# EAGLE library part LEA-5H (library ublox)
GPS RECEIVER
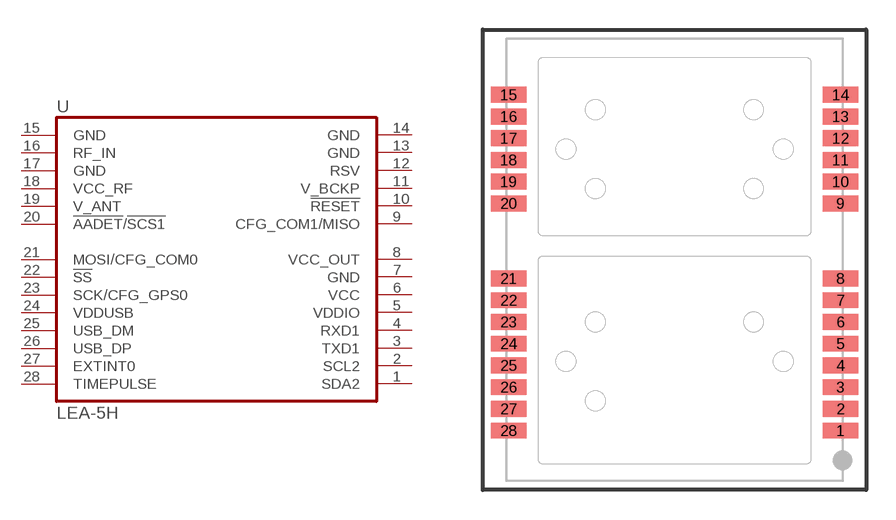
[diagram p0: symbol with the pads of LEA-5H; footprint LEA-5H]

Designator prefix U

## LEA-5H  [LEA-5H]
1  SDA2
2  SCL2
3  TXD1  out
4  RXD1
5  VDDIO
6  VCC
7  GND  pwr
8  VCC_OUT  out
9  CFG_COM1/MISO
10  !RESET!
11  V_BCKP  in
12  RSV
13  GND  pwr
14  GND  pwr
15  GND  pwr
16  RF_IN  in
17  GND  pwr
18  VCC_RF  out
19  V_ANT
20  !AADET!/!SCS1!
21  MOSI/CFG_COM0
22  !SS!
23  SCK/CFG_GPS0
24  VDDUSB  in
25  USB_DM
26  USB_DP
27  EXTINT0
28  TIMEPULSE  out

## Footprint LEA-5H (pad centres in mm)
u-blox 5 GPS Module
smd 1.8 x 0.8: 1 8.4,-17; 2 8.4,-15.9; 3 8.4,-14.8; 4 8.4,-13.7; 5 8.4,-12.6; 6 8.4,-11.5; 7 8.4,-10.4; 8 8.4,-9.3; 9 8.4,-5.5; 10 8.4,-4.4; 11 8.4,-3.3; 12 8.4,-2.2; 13 8.4,-1.1; 14 8.4,0; 15 -8.4,0; 16 -8.4,-1.1; 17 -8.4,-2.2; 18 -8.4,-3.3; 19 -8.4,-4.4; 20 -8.4,-5.5; 21 -8.4,-9.3; 22 -8.4,-10.4; 23 -8.4,-11.5; 24 -8.4,-12.6; 25 -8.4,-13.7; 26 -8.4,-14.8; 27 -8.4,-15.9; 28 -8.4,-17